# EAGLE library part MPL5115A2 (library Mine)
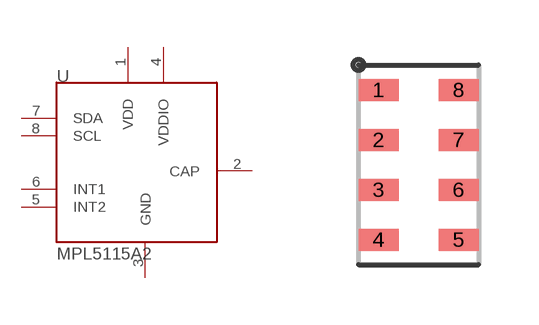
[diagram p58: symbol with the pads of LGA8; footprint LGA8]

Designator prefix -

## MPL5115A2  [LGA8]
1  VDD  pwr
2  CAP  pas
3  GND  pwr
4  VDDIO  pwr
5  INT2  out
6  INT1  out
7  SDA  oc
8  SCL  in

## Footprint LGA8 (pad centres in mm)
smd 1 x 0.55: 1 -1,1.875; 2 -1,0.625; 3 -1,-0.625; 4 -1,-1.875; 5 1,-1.875; 6 1,-0.625; 7 1,0.625; 8 1,1.875